# Altium footprint library Jumper.PcbLib: 2 footprints
Each footprint in its own frame and in the unit in brackets; x right, y up, seen from the top. Pads: shape width x height; smd on the part's side, far side on the other; paste and mask are expansions set on the pad; w line width, h text height; cw(c..) or ccw(c..) is an arc to the next point about the centre after c.
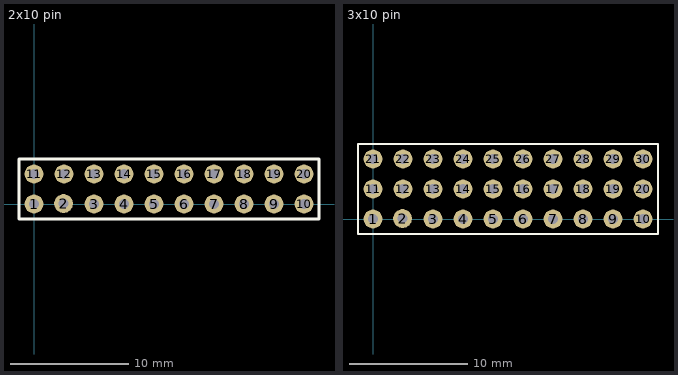
[diagram p0: the footprints below, top view; thin cyan lines are the x and y axes]

## 2x10 pin [mil]
pads (20):
  round 63 / inner round 60 / far side round 63 hole 34: 1(0,0) 2(98.43,1.57) 3(200,0) 4(300,0) 5(400,0) 6(500,0) 7(600,0) 8(700,0) 9(800,0) 10(900,0) 11(0,100) 12(100,100) 13(200,100) 14(300,100) 15(400,100) 16(500,100) 17(600,100) 18(700,100) 19(800,100) 20(900,100)
Top Overlay:
  lines w10: -50,-50 -50,150 950,150 950,-50 -50,-50

## 3x10 pin [mil]
pads (30):
  round 63 / inner round 60 / far side round 63 hole 34: 1(0,0) 2(98.43,1.57) 3(200,0) 4(300,0) 5(400,0) 6(500,0) 7(600,0) 8(700,0) 9(800,0) 10(900,0) 11(0,100) 12(100,100) 13(200,100) 14(300,100) 15(400,100) 16(500,100) 17(600,100) 18(700,100) 19(800,100) 20(900,100) 21(0,200) 22(100,200) 23(200,200) 24(300,200) 25(400,200) 26(500,200) 27(600,200) 28(700,200) 29(800,200) 30(900,200)
Top Overlay:
  lines w7.87: -50,-50 -50,250
  lines w8: -50,-50 950,-50 950,250 -50,250